# EAGLE library part 638263222006 (library WR-FAST)
WR-FAST 5.08 mm THT Male Header Vertical Blade 6.3 KIND PROPERTIES Pitch 5.08 mm Gender Male MATERIAL PROPERTIES Insulator Material PC Insulator Flammability Rating UL94 V-0 Insulator Color Black Contact Material Steel Contact Plating Tin Contact Type Stamped GENERAL INFORMATION Operating Temperature -30 up to +120 °C Working Voltage 300 V (AC) Withstanding Voltage 1600 V (AC) Contact Resistance 20 mΩ RISO 5 MΩ IR 16 A CERTIFICATION cULus Approval E150931 PACKAGING PROPERTIES Packaging Box <https://www.we-online.com/catalog/media/o166977v209%20Family_WR-FAST_638263222003.jpg> Details see: https://www.we-online.com/catalog/en/FAST_5_08_THT_MALE_VERTICAL_6382632220XX/ Updated by Ella Wu 2020-08-11 2020(C) Wurth Elektronik
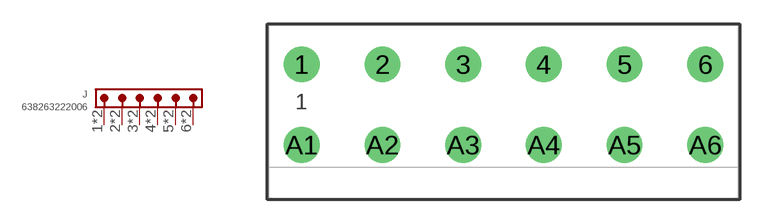
[diagram p18: symbol with the pads of 638263222006; footprint 638263222006]

Designator prefix J

## 638263222006 (CONTACT-RESISTANCE: 20mOhm; DATASHEET-URL: https://www.we-online.com/catalog/datasheet/638263222006.pdf; GENDER: Male; IR: 16A; MOUNT: THT; PART-NUMBER: 638263222006; PINS: 6; PITCH: 5.08mm; TYPE: Vertical; VALUE: 638263222006; WORKING-VOLTAGE: 300V(AC))  [638263222006]
1  1  pas
2  2  pas
3  3  pas
4  4  pas
5  5  pas
6  6  pas
A1  1  pas
A2  2  pas
A3  3  pas
A4  4  pas
A5  5  pas
A6  6  pas

## Footprint 638263222006 (pad centres in mm)
WR-FAST 5.08 mm THT Male Header Vertical Blade 6.3 6pins
drill 1.5: 1 -12.7,2.54; 2 -7.62,2.54; 3 -2.54,2.54; 4 2.54,2.54; 5 7.62,2.54; 6 12.7,2.54; A1 -12.7,-2.54; A2 -7.62,-2.54; A3 -2.54,-2.54; A4 2.54,-2.54; A5 7.62,-2.54; A6 12.7,-2.54